# Altium schematic symbol library TC2030.SchLib: 1 symbol
Pins are listed as number, name and electrical type; pins without a type are passive.

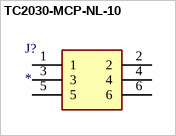
[diagram p0: symbol TC2030-MCP-NL-10]

## TC2030-MCP-NL-10
designator J?
Connector; Manufacturer_Name: Tag Connect; Manufacturer_Part_Number: TC2030-MCP-NL-10; Description: CABLE IN-CIRCUIT 10" W/O LEGS; Datasheet Link: https://datasheet.datasheetarchive.com/originals/distributors/Datasheets_SAMA/69d9de5c4f3ef6f122772fd5d7b0f8ab.pdf; Height: 18mm
footprint TC2030MCPNL10
pins: 1, 2, 3, 4, 5, 6